# Altium footprint library PcbLib1.PcbLib: 6 footprints
Each footprint in its own frame and in the unit in brackets; x right, y up, seen from the top. Pads: shape width x height; smd on the part's side, far side on the other; paste and mask are expansions set on the pad; w line width, h text height; cw(c..) or ccw(c..) is an arc to the next point about the centre after c.
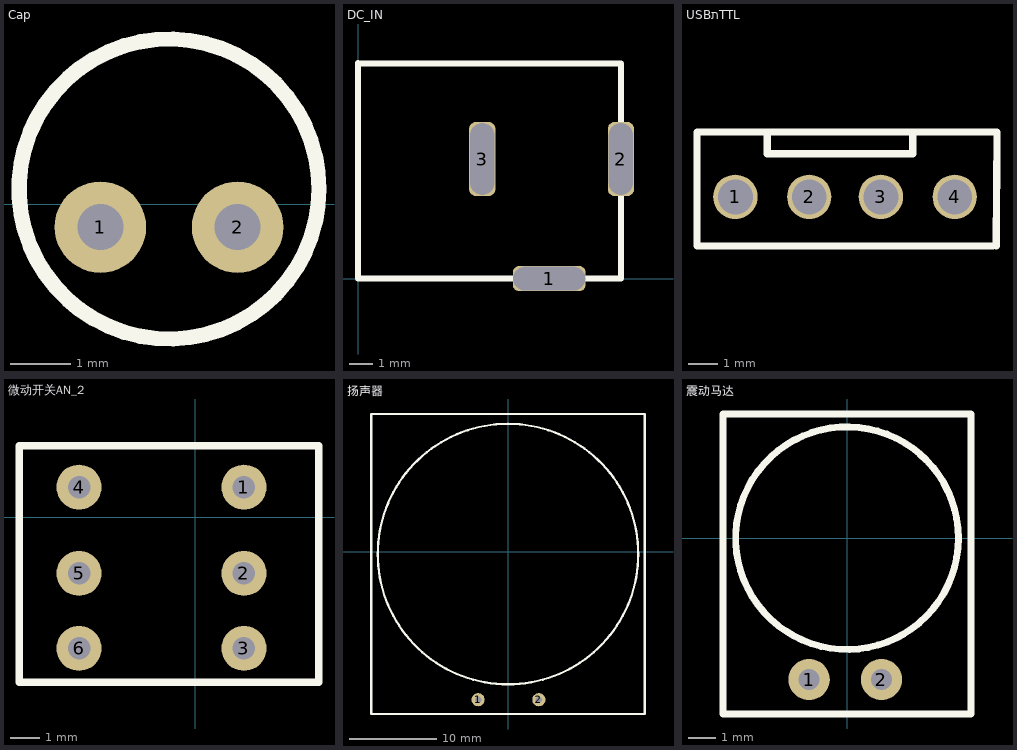
[diagram p0: the footprints below, top view; thin cyan lines are the x and y axes]

## Cap [mil]
pads (2):
  round 60 hole 30: 1(-165,-15) 2(-75,-15)
Top Overlay:
  circle w10: c-120,10 r98.43

## DC_IN [mm]
pads (3):
  rrect50% 3.05x1.05 hole 1 slot 3 at 0 deg: 1(8,0)
  rrect50% 1.1x3.1 hole 1 slot 3 at 90 deg: 2(11,5) 3(5.2,5)
Top Overlay:
  lines w0.254: 0,9 11,9 11,0 0,0 0,9.017

## USBתTTL [mm]
pads (4):
  round 1.524 hole 1.2: 1(5,6.77) 2(7.54,6.77) 3(10,6.77) 4(12.54,6.77)
Top Overlay:
  lines w0.254: 6.096,8.255 6.096,8.636 6.096,9 ; 6.103,8.255 11.103,8.255 11.103,8.89 ; 13.843,5.08 5,5.08 3.683,5.08 3.683,9 13.992,9 13.966,5.079

## 微动开关AN_2 [mil]
pads (6):
  round 60 hole 30: 1(65,40) 2(65,-75) 3(65,-175) 4(-155,40) 5(-155,-75) 6(-155,-175)
Top Overlay:
  lines w10: -235,-220 -235,95 165,95 165,-220 -235,-220

## 扬声器 [mil]
pads (2):
  round 60 hole 30: 1(-135.59,-670) 2(140,-670)
Top Overlay:
  circle w10: c0,-10 r590.55
  lines w10: -620,-735 -620,625 620,625 620,-735 -620,-735

## 震动马达 [mil]
pads (2):
  round 60 hole 30 mask+4: 1(-55,-205)
  round 60 hole 30: 2(50,-205)
Top Overlay:
  circle w10: c0,0 r161.42
  lines w10: -180,-255 180,-255 180,180 -180,180 -180,-255